# EAGLE library part MMUSB232 (library PIC16F1789)
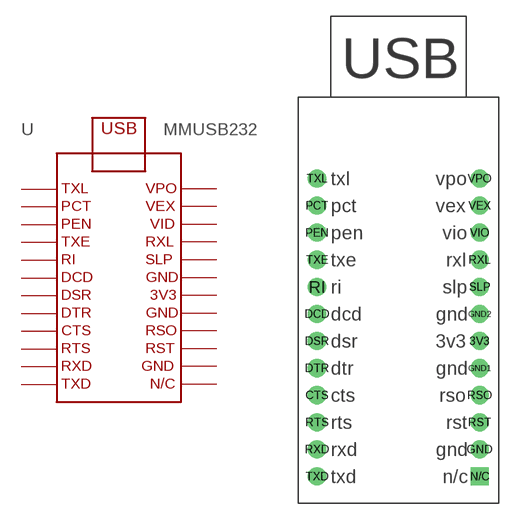
[diagram p1: symbol with the pads of MMUSB232; footprint MMUSB232]

Designator prefix U

## MMUSB232  [MMUSB232]
3V3  3V3
CTS  CTS
DCD  DCD
DSR  DSR
DTR  DTR
GND  GND
GND1  GND1
GND2  GND2
N/C  N/C
PCT  PCT
PEN  PEN
RI  RI
RSO  RSO
RST  RST
RTS  RTS
RXD  RXD
RXL  RXL
SLP  SLP
TXD  TXD
TXE  TXE
TXL  TXL
VEX  VEX
VIO  VID
VPO  VPO

## Footprint MMUSB232 (pad centres in mm)
drill 1.1 pad 1.7: 3V3 7.62,-3.81; CTS -7.62,-8.89; DCD -7.62,-1.27; DSR -7.62,-3.81; DTR -7.62,-6.35; GND 7.62,-13.97; GND1 7.62,-6.35; GND2 7.62,-1.27; PCT -7.62,8.89; PEN -7.62,6.35; RI -7.62,1.27; RSO 7.62,-8.89; RST 7.62,-11.43; RTS -7.62,-11.43; RXD -7.62,-13.97; RXL 7.62,3.81; SLP 7.62,1.27; TXD -7.62,-16.51; TXE -7.62,3.81; TXL -7.62,11.43; VEX 7.62,8.89; VIO 7.62,6.35; VPO 7.62,11.43
drill 1.1 pad 1.7 square: N/C 7.62,-16.51